# Altium schematic symbol library Power ICs.SchLib: 19 symbols
Pins are listed as number, name and electrical type; pins without a type are passive.

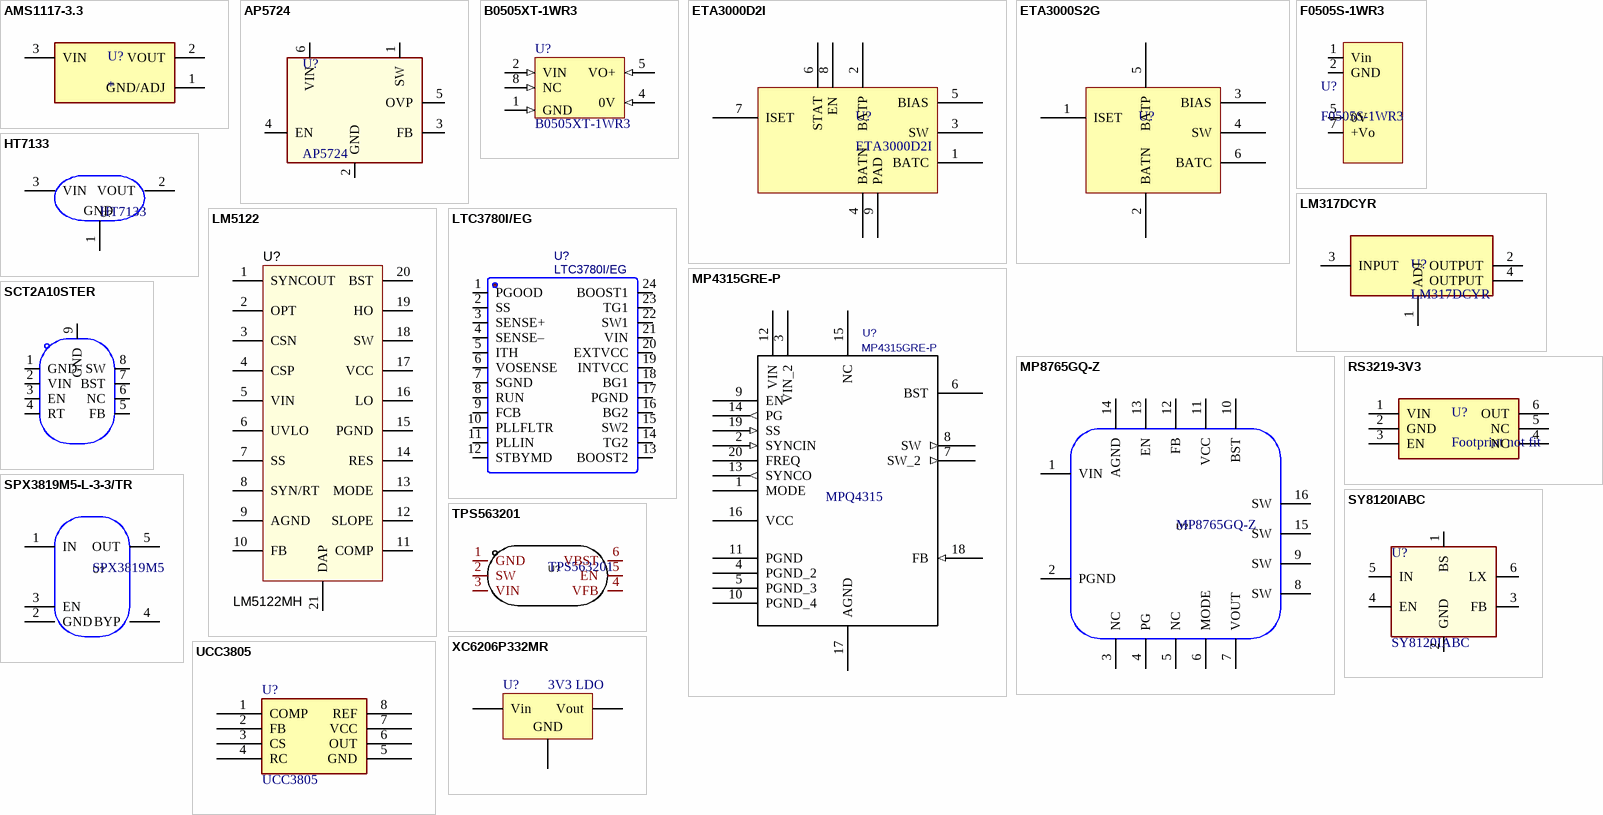
[diagram p0: symbols AMS1117-3.3 to XC6206P332MR]

## AMS1117-3.3
designator U?
Sot223/Pkg 1-Amp 3.3-Volt Low Drop Out Voltage Regulatator; MF: Advanced Monolithic Systems; MP: AMS1117-3.3; Package: SOT-223 Seeed Technology; Value: *; Check_prices: https://www.snapeda.com/parts/AMS1117-3.3/Advanced+Monolithic+Systems/view-part/?ref=eda; Price: None; Availability: Not in stock; SnapEDA_Link: https://www.snapeda.com/parts/AMS1117-3.3/Advanced+Monolithic+Systems/view-part/?ref=snap
footprint SOT229P700X180-4N
pins: 1 GND/ADJ (power), 2 VOUT (power), 3 VIN (power)

## AP5724
designator U?
WHITE LED STEP-UP CONVERTER
footprint SOT-23-6
pins: 1 SW, 2 GND, 3 FB, 4 EN, 5 OVP, 6 VIN

## B0505XT-1WR3
designator U?
MORNSUN Isolation Power supply. 200mA max
footprint B0505XT-1WR3
pins: 1 GND (in), 2 VIN (in), 4 0V (in), 5 VO+ (in), 8 NC (in)

## ETA3000D2I
designator U?
Series Battery Balancer
footprint DFN-8
pins: 1 BATC, 2 BATP, 3 SW, 4 BATN, 5 BIAS, 6 STAT, 7 ISET, 8 EN, 9 PAD

## ETA3000S2G
designator U?, comment Battery Balancer IC  (value not drawn)
Series Battery Balancer
footprint SOT-23-6
pins: 1 ISET, 2 BATN, 3 BIAS, 4 SW, 5 BATP, 6 BATC

## F0505S-1WR3
designator U?
MORNSUN Isolation Power supply
footprint F_S-1WR3
pins: 1 Vin, 2 GND, 5 0V, 7 +Vo

## HT7133
designator U?
Low Quiescent Current (1.7uA) CMOS Technology LDO.; Manufacturer: HXY MOSFET(华轩阳电子); Symbol: HT7133_C5449394; Add into BOM: yes; Output Type: 固定; Maximum Input Voltage: 30V; Output Voltage: 3.3V; MAX Output Current: 50mA; Output Polarity: 正极; Number of Outputs: 1; Device: HT7133_C5449394; LCSC Part Name: HT7133 HT33; Supplier Part: C5449394; Manufacturer Part: HT7133; Supplier Footprint: SOT-23; JLCPCB Part Class: Extended Part; Datasheet: https://atta.szlcsc.com/upload/public/pdf/source/20230913/AF774D61D6F77248279C591B3EACD1A7.pdf; Supplier: LCSC; Convert to PCB: yes
footprint SOT-23-3
pins: 1 GND, 2 VOUT, 3 VIN

## LM317DCYR
designator U?
3 Terminal Adjustable Voltage Regulator - Ti; MF: Advanced Monolithic Systems; MP: AMS1117-3.3; Package: SOT-223 Seeed Technology; Value: *; Check_prices: https://www.snapeda.com/parts/AMS1117-3.3/Advanced+Monolithic+Systems/view-part/?ref=eda; Price: None; Availability: Not in stock; SnapEDA_Link: https://www.snapeda.com/parts/AMS1117-3.3/Advanced+Monolithic+Systems/view-part/?ref=snap
footprint SOT-223
pins: 1 ADJ (power), 2 OUTPUT (power), 3 INPUT (power), 4 OUTPUT (power)

## LM5122
designator U?, comment LM5122MH
Manufacturer: TI; SymbolCreator: bkinsc; CompType: IC; U/M: EA; SymbolVersion: 2011-12-07; MountType: SMT, TH, or N/A; RoHS: Y; PartNumber: LM5122MH; PackageReference: eg:  0603, used in PnP report; ComponentLink1Description: Datasheet Link; Alternate PartNumber: -; Alternate Manufacturer: -; LCSC#: C77241
footprint MXA20A_L (TSOP, 20-Leads, Body 6.5x4.4mm, Pitch 0.65mm, Exposed Pad, IPC High Density)
footprint MXA20A_M (TSOP, 20-Leads, Body 6.5x4.4mm, Pitch 0.65mm, Exposed Pad, IPC Low Density)
footprint MXA20A_N (TSOP, 20-Leads, Body 6.5x4.4mm, Pitch 0.65mm, Exposed Pad, IPC Medium Density)
footprint MXA20A_L (TSOP, 20-Leads, Body 6.5x4.4mm, Pitch 0.65mm, Exposed Pad, IPC High Density)
pins: 1 SYNCOUT, 2 OPT, 3 CSN, 4 CSP, 5 VIN, 6 UVLO, 7 SS, 8 SYN/RT, 9 AGND, 10 FB, 11 COMP, 12 SLOPE, 13 MODE, 14 RES, 15 PGND, 16 LO, 17 VCC, 18 SW, 19 HO, 20 BST, 21 DAP

## LTC3780I/EG
designator U?
Buck Boost DCDC Converter.; BOM_Manufacturer: Analog Devices; BOM_Manufacturer Part: LTC3780IG#TRPBF; Contributor: LCSC; BOM_Supplier: LCSC; BOM_Supplier Part: C685962; spicePre: U; spiceSymbolName: LTC3780IG#TRPBF
footprint SSOP-24
pins: 1 PGOOD, 2 SS, 3 SENSE+, 4 SENSE–, 5 ITH, 6 VOSENSE, 7 SGND, 8 RUN, 9 FCB, 10 PLLFLTR, 11 PLLIN, 12 STBYMD, 13 BOOST2, 14 TG2, 15 SW2, 16 BG2, 17 PGND, 18 BG1, 19 INTVCC, 20 EXTVCC, 21 VIN, 22 SW1, 23 TG1, 24 BOOST1

## MP4315GRE-P
designator U?
45V,5A Sync. Buck; Mfr_Name: Monolithic Power Systems; C: Copyright (C) 2021 Accelerated Designs. All rights reserved; Value: MP4315GRE-P; Copyright: Copyright (C) 2024 Ultra Librarian. All rights reserved.; Manufacturer_Part_Number: MP4315GRE-P
footprint QFN-20_MP4315
pins: 1 MODE, 2 SYNCIN (in), 3 VIN_2 (power), 4 PGND_2 (power), 5 PGND_3 (power), 6 BST (power), 7 SW_2 (out), 8 SW (out), 9 EN, 10 PGND_4 (power), 11 PGND (power), 12 VIN (power), 13 SYNCO (out), 14 PG (out), 15 NC, 16 VCC (power), 17 AGND (power), 18 FB (in), 19 SS (in), 20 FREQ
text: MPQ4315

## MP8765GQ-Z
designator U?
24V, 6A High Efficiency (95%) Synchronous Step-down Converter.; Add into BOM: yes; Function: 降压型; Output Type: 可调; Input Voltage: 5V~22V; Output Voltage: 604mV~5.5V; Switching Frequency: 500kHz; Synchronous Rectification: 是; Number of Outputs: 1; Topology: 降压式; Switch tube (built-in/external): 内置; Symbol: MP8765GQ-Z; Device: MP8765GQ-Z; LCSC Part Name: MP8765GQ-Z; Supplier Part: C113624; Manufacturer Part: MP8765GQ-Z; Supplier Footprint: QFN-16(3x3); JLCPCB Part Class: Extended Part; Supplier: LCSC; Convert to PCB: yes; Output Current (Max): 6A; Operating Temperature: -40℃~+125℃@(TJ)
footprint QFN-16_MP8765 (MP8765 Dedicated QFN-16 3x3mm Footprint.)
pins: 1 VIN, 2 PGND, 3 NC, 4 PG, 5 NC, 6 MODE, 7 VOUT, 8 SW, 9 SW, 10 BST, 11 VCC, 12 FB, 13 EN, 14 AGND, 15 SW, 16 SW

## RS3219-3V3
designator U?, comment Footprint not fit
SOT23-5 3V3 LDO, Capable of 300mA Output Current.; MF: Advanced Monolithic Systems; MP: AMS1117-3.3; Package: SOT-223 Seeed Technology; Value: *; Check_prices: https://www.snapeda.com/parts/AMS1117-3.3/Advanced+Monolithic+Systems/view-part/?ref=eda; Price: None; Availability: Not in stock; SnapEDA_Link: https://www.snapeda.com/parts/AMS1117-3.3/Advanced+Monolithic+Systems/view-part/?ref=snap
footprint SOT-23-6
pins: 1 VIN (power), 2 GND (power), 3 EN (power), 4 NC (power), 5 NC (power), 6 OUT (power)

## SCT2A10STER
designator U?, comment DCDC Buck  (value not drawn)
4.5V-85V Vin, 0.6A, Synchronous Step-down DCDC / Converter with Programmable Frequency; Manufacturer: SCT(芯洲科技); Name: SCT2A10STER; Add into BOM: yes; Symbol: SCT2A10STER; Device: SCT2A10STER; LCSC Part Name: 电源IC; Supplier Part: C509053; Manufacturer Part: SCT2A10STER; Supplier Footprint: ESOP-8L; JLCPCB Part Class: Extended Part; Datasheet: https://atta.szlcsc.com/upload/public/pdf/source/20200628/C509053_23337C22B8567B437AB54DC2021FACC2.pdf; Supplier: LCSC; Convert to PCB: yes; ComponentLink1Description: Vendor Link; ComponentLink1URL: https://so.szlcsc.com/global.html?k=SCT2A10STER&hot-key=LM358
footprint ESOP-8
pins: 1 GND, 2 VIN, 3 EN, 4 RT, 5 FB, 6 NC, 7 BST, 8 SW, 9 GND

## SPX3819M5-L-3-3/TR
designator U?, comment SPX3819M5
3V3 LDO, 16V Input range. 500mA Capable Output.; Manufacturer: MaxLinear(迈凌); Symbol: SPX3819M5-L-3-3/TR; Add into BOM: yes; Output Type: 固定; Output Voltage: 3.3V; Power Supply Rejection Ratio (PSRR): 70dB; Dropout Voltage: 700mV@(500mA); standby current: 8uA; Output Polarity: 正极; Number of Outputs: 1; Device: SPX3819M5-L-3-3/TR; LCSC Part Name: 输入16V 输出3.3V 500mA; Supplier Part: C9055; Manufacturer Part: SPX3819M5-L-3-3/TR; Supplier Footprint: SOT-23-5; JLCPCB Part Class: Extended Part; Datasheet: https://atta.szlcsc.com/upload/public/pdf/source/20150720/1457707331934.pdf; Supplier: LCSC; Convert to PCB: yes; Maximum Input Voltage: 16V; MAX Output Current: 500mA; Operating Temperature: -40℃~+125℃
footprint SOT-23-5
pins: 1 IN, 2 GND, 3 EN, 4 BYP, 5 OUT

## SY8120IABC
designator U?
High Efficiency, Fast Response, 2.0A, 18V Input. Synchronous Step Down Regulator
footprint SOT-23-6
pins: 1 BS, 2 GND, 3 FB, 4 EN, 5 IN, 6 LX

## TPS563201
designator U?
DCDC In 4.5V~17V Out 768mV~7V 3A; Manufacturer: TI(德州仪器); Name: TPS563201DDCR; Add into BOM: yes; Function: 降压型; Synchronous Rectification: 是; Output Type: 可调; Number of Outputs: 1; Topology: 降压式; Switching Frequency: 580kHz; Symbol: TPS563201DDCR; Device: TPS563201DDCR; LCSC Part Name: 降压型 Vin=4.5V~17V Vout=768mV~7V 3A; Supplier Part: C116592; Manufacturer Part: TPS563201DDCR; Supplier Footprint: SOT-23-Thin-6; JLCPCB Part Class: Extended Part; Datasheet: https://atta.szlcsc.com/upload/public/pdf/source/20170707/1499421477081.pdf; Supplier: LCSC; Convert to PCB: yes; Input Voltage: 4.5V~17V; Output Voltage: 768mV~7V; Output Current (Max): 3A; Operating Temperature: -40℃~+125℃@(TJ)
footprint SOT-23-6
pins: 1 GND, 2 SW, 3 VIN, 4 VFB, 5 EN, 6 VBST

## UCC3805
designator U?
Current Mode PWM controller
footprint SOP-8
pins: 1 COMP, 2 FB, 3 CS, 4 RC, 5 GND, 6 OUT, 7 VCC, 8 REF

## XC6206P332MR
designator U?, comment 3V3 LDO
3V3 LDO , MAXIMUM 6V Input , 250mA Load Capacity; ComponentLink1Description: Vendor Link; ComponentLink1URL: http://www.szlcsc.com/product/details_5896.html; Package: SOT-23; Supplier: LC; SuppliersPartNumber: C5446
footprint SOT-23-3
pins: 1 GND, 2 Vout, 3 Vin